# EAGLE library part LM2678 (library robot)
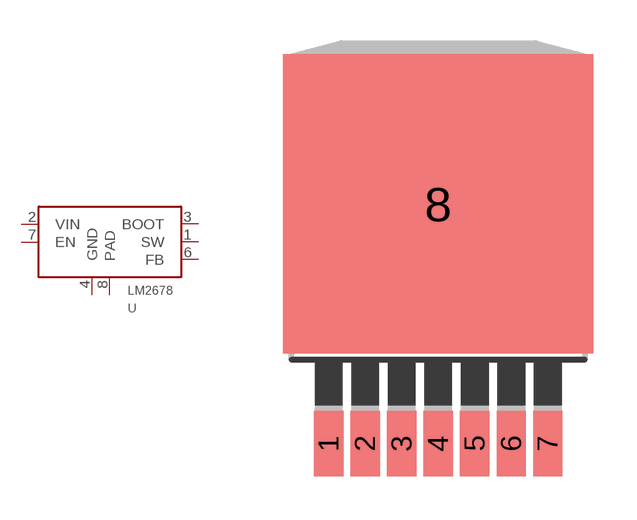
[diagram p10: symbol with the pads of TO263-7; footprint TO263-7]

Designator prefix -

## LM2678S  [TO263-7]
1  SW  out
2  VIN  pwr
3  BOOT  in
4  GND  pwr
6  FB  in
7  EN  in
8  PAD  pwr

## Footprint TO263-7 (pad centres in mm)
TO-263
smd 1.016 x 2.286: 1 -3.81,-5.791; 2 -2.54,-5.791; 3 -1.27,-5.791; 4 0,-5.791; 5 1.27,-5.791; 6 2.54,-5.791; 7 3.81,-5.791
smd 10.8 x 10.41: 8 0,2.54